# Altium footprint library DIP-CN  0607.PcbLib: 329 footprints (part 15 of 21)
Each footprint in its own frame and in the unit in brackets; x right, y up, seen from the top. Pads: shape width x height; smd on the part's side, far side on the other; paste and mask are expansions set on the pad; w line width, h text height; cw(c..) or ccw(c..) is an arc to the next point about the centre after c.
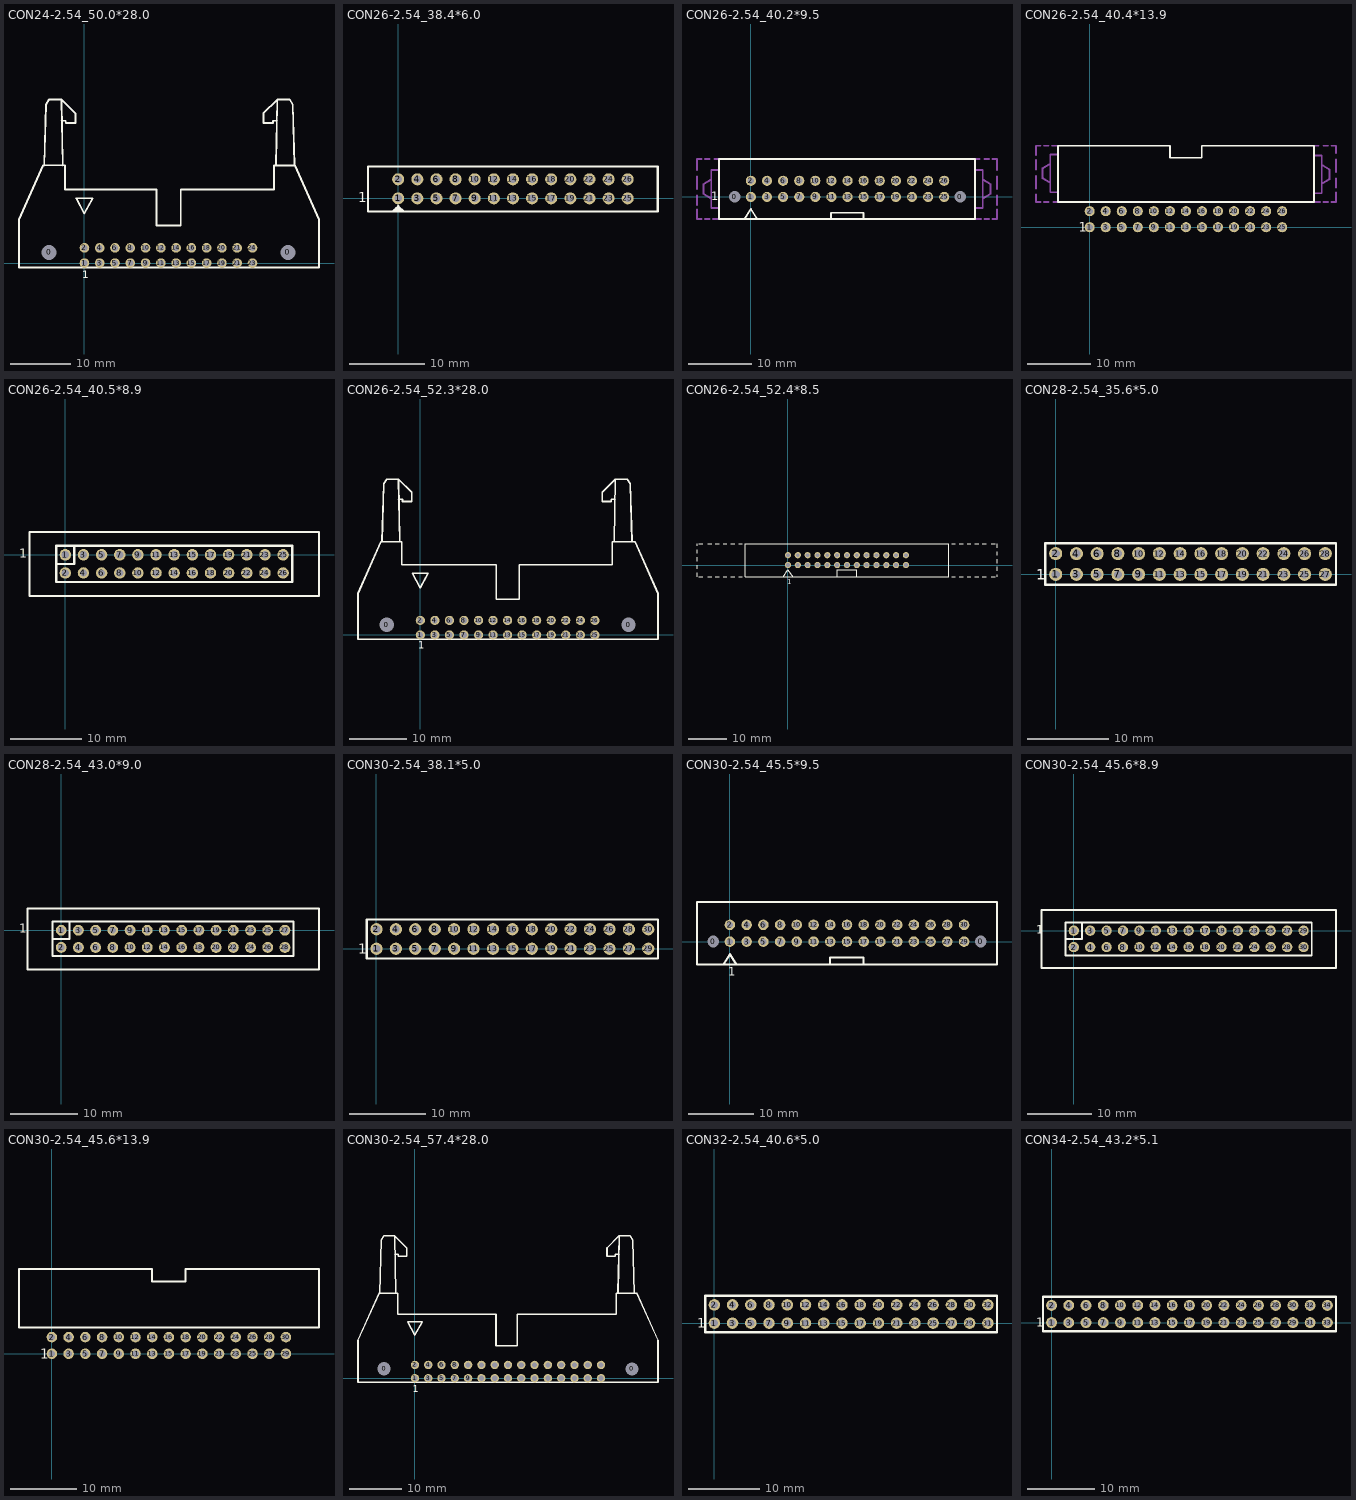
[diagram p14: the footprints below, top view; thin cyan lines are the x and y axes]

## CON24-2.54_50.0*28.0 [mm]
pads (26):
  round 1.6 hole 2.5 unplated: 0(-5.881,1.797) 0(33.819,1.797)
  round 1.6 hole 1: 1(0,0) 2(0,2.54) 3(2.54,0) 4(2.54,2.54) 5(5.08,0) 6(5.08,2.54) 7(7.62,0) 8(7.62,2.54) 9(10.16,0) 10(10.16,2.54) 11(12.7,0) 12(12.7,2.54) 13(15.24,0) 14(15.24,2.54) 15(17.779,-0.003) 16(17.779,2.537) 17(20.319,-0.003) 18(20.319,2.537) 19(22.859,-0.003) 20(22.859,2.537) 21(25.399,-0.003) 21(25.399,2.537) 23(27.939,-0.003) 24(27.939,2.537)
TopOverlay:
  lines w0.3: -6.698,16.247 -6.398,26.387 -5.898,27.187 -3.798,27.187 ; -3.798,23.687 -3.098,23.687 -3.098,23.287 -1.498,23.287 -1.498,24.887 -3.798,27.187 ; -3.598,16.247 -3.798,27.187 ; 31.846,16.247 32.046,27.187 ; 32.046,23.687 31.346,23.687 31.346,23.287 29.746,23.287 29.746,24.887 32.046,27.187 ; 34.946,16.247 34.646,26.387 34.146,27.187 32.046,27.187 ; -10.881,-0.743 38.999,-0.753 38.999,7.247 34.999,16.247 31.499,16.247 31.499,12.247 15.999,12.247 15.999,6.247 11.999,6.247 11.999,12.247 -3.251,12.247 -3.251,16.247 -6.881,16.257 -10.881,7.257 -10.881,-0.743 ; -1.381,10.782 1.394,10.782 -0.031,8.232 -1.381,10.782
  text "1" at -0.381,-2.54 h1.3
BottomOverlay:
  lines w0.3: -1.016,1.27 28.956,1.27 ; 1.27,-0.829 1.27,3.616 ; 3.81,-0.829 3.81,3.616 ; 6.35,-0.829 6.35,3.616 ; 8.89,-0.829 8.89,3.616 ; 11.43,-0.829 11.43,3.616 ; 13.97,-0.829 13.97,3.616 ; 16.51,-0.829 16.51,3.616 ; 19.05,-0.829 19.05,3.616 ; 21.59,-0.889 21.59,3.556 ; 24.13,-0.829 24.13,3.616 ; 26.67,-0.889 26.67,3.556

## CON26-2.54_38.4*6.0 [mm]
pads (26):
  round 1.6 hole 1: 1(0,0) 2(0,2.54) 3(2.54,0) 4(2.54,2.54) 5(5.08,0) 6(5.08,2.54) 7(7.62,0) 8(7.62,2.54) 9(10.16,0) 10(10.16,2.54) 11(12.7,0) 12(12.7,2.54) 13(15.24,0) 14(15.24,2.54) 15(17.78,0) 16(17.78,2.54) 17(20.32,0) 18(20.32,2.54) 19(22.86,0) 20(22.86,2.54) 21(25.4,0) 22(25.4,2.54) 23(27.94,0) 24(27.94,2.54) 25(30.48,0) 26(30.48,2.54)
TopOverlay:
  lines w0.3: -0.7,-1.75 0,-1.05 ; -0.515,-1.565 0.515,-1.565 ; -0.423,-1.473 0.306,-1.473 ; -0.258,-1.308 0.251,-1.308 ; 0,-1.75 0,-1.05 ; 0.7,-1.75 0,-1.05 ; 34.47,-1.75 34.47,4.25 ; 34.5,-1.75 -4,-1.75 -4,4.25 34.5,4.25
  text "1" at -5.334,-0.508 h1.3

## CON26-2.54_40.2*9.5 [mm]
pads (28):
  round 1.5 hole 1.8 unplated: 0(-2.54,0) 0(33.02,0)
  round 1.6 hole 1: 1(0,0) 2(0,2.54) 3(2.54,0) 4(2.54,2.54) 5(5.08,0) 6(5.08,2.54) 7(7.62,0) 8(7.62,2.54) 9(10.16,0) 10(10.16,2.54) 11(12.7,0) 12(12.7,2.54) 13(15.24,0) 14(15.24,2.54) 15(17.78,0) 16(17.78,2.54) 17(20.32,0) 18(20.32,2.54) 19(22.86,0) 20(22.86,2.54) 21(25.4,0) 22(25.4,2.54) 23(27.94,0) 24(27.94,2.54) 25(30.48,0) 26(30.48,2.54)
TopOverlay:
  lines w0.3: 12.66,-3.5 12.66,-2.5 17.78,-2.5 17.78,-3.5 ; -1,-3.5 0,-1.905 1,-3.5 ; -1,-3.5 1,-3.5 ; -1,-3.5 1,-3.5 ; -1,-3.5 1,-3.5 ; -5,-3.5 35.306,-3.5 35.306,6 -5,6 -5,-3.5
  text "1" at -6.223,-0.508 h1.3
BottomOverlay:
  lines w0.3: -1.016,1.27 31.369,1.27 ; 1.27,-0.829 1.27,3.616 ; 3.81,-0.829 3.81,3.616 ; 6.35,-0.829 6.35,3.616 ; 8.89,-0.829 8.89,3.616 ; 11.43,-0.829 11.43,3.616 ; 13.97,-0.829 13.97,3.616 ; 16.51,-0.829 16.51,3.616 ; 19.05,-0.829 19.05,3.616 ; 21.59,-0.889 21.59,3.556 ; 24.13,-0.829 24.13,3.616 ; 26.67,-0.889 26.67,3.556 ; 29.21,-0.889 29.21,3.556
Mechanical7:
  lines w0.3: -8.5,-2 -8.5,-3.5 -7.75,-3.5 ; -8.5,-1.25 -8.5,0.25 ; -8.5,1.25 -8.5,3.25 ; -8.5,4.25 -8.5,6 -7.75,6 ; -7.25,-3.5 -6.5,-3.5 ; -7.25,6 -6.5,6 ; -6,-3.5 -5,-3.5 ; -5.75,6 -5,6 ; -5,-1.75 -6.25,-1.75 -6.25,-0.25 ; -5,4.25 -6.25,4.25 -6.25,2.75 ; 35.306,-3.5 36.306,-3.5 ; 35.306,-1.75 36.556,-1.75 36.556,-0.25 ; 35.306,4.25 36.556,4.25 36.556,2.75 ; 35.306,6 36.056,6 ; 36.806,-3.5 37.556,-3.5 ; 36.806,6 37.556,6 ; 38.056,-3.5 38.806,-3.5 38.806,-2 ; 38.056,6 38.806,6 38.806,4.25 ; 38.806,-1.25 38.806,0.25 ; 38.806,1.25 38.806,3.25 ; -6.25,-0.25 -6.25,2.75 ; -6.25,-0.25 -7.5,0.5 -7.5,2 -6.25,2.75 ; 36.556,-0.25 36.556,2.75 ; 36.556,-0.25 37.806,0.5 37.806,2 36.556,2.75

## CON26-2.54_40.4*13.9 [mm]
pads (26):
  round 1.6 hole 1: 1(0,0) 2(0,2.54) 3(2.54,0) 4(2.54,2.54) 5(5.08,0) 6(5.08,2.54) 7(7.62,0) 8(7.62,2.54) 9(10.16,0) 10(10.16,2.54) 11(12.7,0) 12(12.7,2.54) 13(15.24,0) 14(15.24,2.54) 15(17.78,0) 16(17.78,2.54) 17(20.32,0) 18(20.32,2.54) 19(22.86,0) 20(22.86,2.54) 21(25.4,0) 22(25.4,2.54) 23(27.94,0) 24(27.94,2.54) 25(30.48,0) 26(30.48,2.54)
TopOverlay:
  lines w0.3: -5,4 35.5,4 35.5,12.9 17.75,12.9 17.75,11 12.7,11 12.7,12.9 -5,12.9 -5,4
  text "1" at -1.75,-0.75 h1.52
Mechanical7:
  lines w0.3: -8.5,5.15 -8.5,4 -7.75,4 ; -8.5,6.15 -8.5,8.15 ; -8.5,9.15 -8.5,10.65 ; -8.5,11.4 -8.5,12.9 -7.75,12.9 ; -7.25,4 -6.5,4 ; -7.25,12.9 -6.5,12.9 ; -6,12.9 -5,12.9 ; -5.75,4 -5,4 ; -5,5.531 -6.25,5.531 -6.25,7.031 ; -5,11.531 -6.25,11.531 -6.25,10.031 ; 35.5,4 36.5,4 ; 35.5,5.369 36.75,5.369 36.75,6.869 ; 35.5,11.369 36.75,11.369 36.75,9.869 ; 35.5,12.9 36.25,12.9 ; 37,4 37.75,4 ; 37,12.9 37.75,12.9 ; 38.25,4 39,4 39,5.5 ; 38.25,12.9 39,12.9 39,11.75 ; 39,6.25 39,7.75 ; 39,8.75 39,10.75 ; -6.25,7.031 -6.25,10.031 ; -6.25,7.031 -7.5,7.781 -7.5,9.281 -6.25,10.031 ; 36.75,6.869 36.75,9.869 ; 36.75,6.869 38,7.619 38,9.119 36.75,9.869

## CON26-2.54_40.5*8.9 [mm]
pads (26):
  round 1.6 hole 1: 1(0,0) 2(0,-2.54) 3(2.54,0) 4(2.54,-2.54) 5(5.08,0) 6(5.08,-2.54) 7(7.62,0) 8(7.62,-2.54) 9(10.16,0) 10(10.16,-2.54) 11(12.7,0) 12(12.7,-2.54) 13(15.24,0) 14(15.24,-2.54) 15(17.78,0) 16(17.78,-2.54) 17(20.32,0) 18(20.32,-2.54) 19(22.86,0) 20(22.86,-2.54) 21(25.4,0) 22(25.4,-2.54) 23(27.94,0) 24(27.94,-2.54) 25(30.48,0) 26(30.48,-2.54)
TopOverlay:
  lines w0.3: -1.27,-1.29 1.25,-1.29 1.25,1.23 ; -5,-5.79 35.5,-5.79 35.5,3.21 -5,3.21 -5,-5.79 ; -1.27,-3.81 31.75,-3.81 31.75,1.27 -1.27,1.27 -1.27,-3.81
  text "1" at -6.477,-0.381 h1.3
BottomOverlay:
  lines w0.3: -0.889,-1.29 31.496,-1.29 ; 1.25,-3.429 1.25,1.016 ; 3.81,-3.429 3.81,1.016 ; 6.35,-3.429 6.35,1.016 ; 8.89,-3.429 8.89,1.016 ; 11.43,-3.556 11.43,0.889 ; 14.097,-3.556 14.097,0.889 ; 16.51,-3.556 16.51,0.889 ; 19.05,-3.429 19.05,1.016 ; 21.59,-3.556 21.59,0.889 ; 24.13,-3.556 24.13,0.889 ; 26.797,-3.556 26.797,0.889 ; 29.21,-3.556 29.21,0.889

## CON26-2.54_52.3*28.0 [mm]
pads (28):
  round 1.6 hole 2.5 unplated: 0(-5.881,1.797) 0(36.359,1.797)
  round 1.6 hole 1: 1(0,0) 2(0,2.54) 3(2.54,0) 4(2.54,2.54) 5(5.08,0) 6(5.08,2.54) 7(7.62,0) 8(7.62,2.54) 9(10.16,0) 10(10.16,2.54) 11(12.7,0) 12(12.7,2.54) 13(15.24,0) 14(15.24,2.54) 15(17.779,-0.003) 16(17.779,2.537) 17(20.319,-0.003) 18(20.319,2.537) 19(22.859,-0.003) 20(22.859,2.537) 21(25.399,-0.003) 22(25.399,2.537) 23(27.939,-0.003) 24(27.939,2.537) 25(30.479,-0.003) 26(30.479,2.537)
TopOverlay:
  lines w0.3: -6.698,16.247 -6.398,26.387 -5.898,27.187 -3.798,27.187 ; -3.798,23.687 -3.098,23.687 -3.098,23.287 -1.498,23.287 -1.498,24.887 -3.798,27.187 ; -3.598,16.247 -3.798,27.187 ; 33.846,16.247 34.046,27.187 ; 34.046,23.687 33.346,23.687 33.346,23.287 31.746,23.287 31.746,24.887 34.046,27.187 ; 36.946,16.247 36.646,26.387 36.146,27.187 34.046,27.187 ; -10.881,-0.743 -10.881,7.257 -6.881,16.257 -3.251,16.247 -3.251,12.247 13.249,12.247 13.249,6.247 17.249,6.247 17.249,12.247 33.499,12.247 33.499,16.247 37.499,16.247 41.499,7.247 41.499,-0.753 -10.881,-0.743 ; -1.381,10.782 -0.031,8.232 1.394,10.782 -1.381,10.782
  text "1" at -0.381,-2.413 h1.3
BottomOverlay:
  lines w0.3: -1.016,1.27 31.369,1.27 ; 1.27,-0.829 1.27,3.616 ; 3.81,-0.829 3.81,3.616 ; 6.35,-0.829 6.35,3.616 ; 8.89,-0.829 8.89,3.616 ; 11.43,-0.829 11.43,3.616 ; 13.97,-0.829 13.97,3.616 ; 16.51,-0.829 16.51,3.616 ; 19.05,-0.829 19.05,3.616 ; 21.59,-0.889 21.59,3.556 ; 24.13,-0.829 24.13,3.616 ; 26.67,-0.889 26.67,3.556 ; 29.21,-0.889 29.21,3.556

## CON26-2.54_52.4*8.5 [mm]
pads (26):
  round 1.6 hole 1: 1(0.001,0.003) 2(0.001,2.543) 3(2.541,0.003) 4(2.541,2.543) 5(5.081,0.003) 6(5.081,2.543) 7(7.621,0.003) 8(7.621,2.543) 9(10.161,0.003) 10(10.161,2.543) 11(12.701,0.003) 12(12.701,2.543) 13(15.241,0.003) 14(15.241,2.543) 15(17.78,0) 16(17.78,2.54) 17(20.32,0) 18(20.32,2.54) 19(22.86,0) 20(22.86,2.54) 21(25.4,0) 22(25.4,2.54) 23(27.94,0) 24(27.94,2.54) 25(30.48,0) 26(30.48,2.54)
TopOverlay:
  lines w0.3: -23.5,-3 -23.5,-2 ; -23.5,-1 -23.5,0 ; -23.5,1 -23.5,2 ; -23.5,3 -23.5,4 ; -23.5,5 -23.5,5.5 ; -23,-3 -22,-3 ; -23,5.5 -22,5.5 ; -20.75,-3 -19.75,-3 ; -20.75,5.5 -19.75,5.5 ; -18.75,-3 -17.75,-3 ; -18.75,5.5 -17.75,5.5 ; -16.75,-3 -15.75,-3 ; -16.75,5.5 -15.75,5.5 ; -14.75,-3 -13.75,-3 ; -14.75,5.5 -13.75,5.5 ; -12.75,-3 -11.75,-3 ; -12.75,5.5 -11.75,5.5 ; -1.27,-3.048 0,-1.27 1.27,-3.048 ; 12.7,-3.048 12.7,-1.27 17.78,-1.27 17.78,-3.048 ; 42.25,-3 43.25,-3 ; 42.25,5.5 43.25,5.5 ; 44.25,-3 45.25,-3 ; 44.25,5.5 45.25,5.5 ; 46.25,-3 47.25,-3 ; 46.25,5.5 47.25,5.5 ; 48.25,-3 49.25,-3 ; 48.25,5.5 49.25,5.5 ; 50.25,-3 51.25,-3 ; 50.25,5.5 51.25,5.5 ; 52.5,-3 53.5,-3 ; 52.5,5.5 53.5,5.5 ; 54,-3 54,-2.5 ; 54,-1.5 54,-0.5 ; 54,0.5 54,1.5 ; 54,2.5 54,3.5 ; 54,4.5 54,5.5 ; -11,-3 -11,5.5 41.5,5.5 41.5,-3 -11,-3
  text "1" at -0.127,-4.953 h1.3
BottomOverlay:
  lines w0.3: -1.015,1.273 31.37,1.273 ; 1.271,-0.826 1.271,3.619 ; 3.811,-0.826 3.811,3.619 ; 6.351,-0.826 6.351,3.619 ; 8.891,-0.826 8.891,3.619 ; 11.431,-0.826 11.431,3.619 ; 13.971,-0.826 13.971,3.619 ; 16.511,-0.826 16.511,3.619 ; 19.051,-0.826 19.051,3.619 ; 21.591,-0.886 21.591,3.559 ; 24.131,-0.826 24.131,3.619 ; 26.671,-0.886 26.671,3.559 ; 29.211,-0.886 29.211,3.559

## CON28-2.54_35.6*5.0 [mm]
pads (28):
  round 1.6 hole 1: 1(0,0) 2(0,2.54) 3(2.54,0) 4(2.54,2.54) 5(5.08,0) 6(5.08,2.54) 7(7.62,0) 8(7.62,2.54) 9(10.16,0) 10(10.16,2.54) 11(12.7,0) 12(12.7,2.54) 13(15.24,0) 14(15.24,2.54) 15(17.779,-0.003) 16(17.78,2.54) 17(20.319,-0.003) 18(20.32,2.54) 19(22.859,-0.003) 20(22.86,2.54) 21(25.4,0) 22(25.4,2.54) 23(27.94,0) 24(27.94,2.54) 25(30.48,0) 26(30.48,2.54) 27(33.02,0) 28(33.02,2.54)
TopOverlay:
  lines w0.3: -1.27,-1.27 34.33,-1.27 34.33,3.81 -1.27,3.81 -1.27,-1.27
  text "1" at -2.413,-0.635 h1.3
BottomOverlay:
  lines w0.3: -1.016,1.27 33.75,1.25 ; 1.27,-0.829 1.27,3.616 ; 3.81,-0.829 3.81,3.616 ; 6.35,-0.829 6.35,3.616 ; 8.89,-0.829 8.89,3.616 ; 11.43,-0.829 11.43,3.616 ; 13.97,-0.829 13.97,3.616 ; 16.51,-0.829 16.51,3.616 ; 19.05,-0.829 19.05,3.616 ; 21.59,-0.889 21.59,3.556 ; 24.13,-0.829 24.13,3.616 ; 26.67,-0.889 26.67,3.556 ; 29.21,-0.889 29.21,3.556 ; 31.75,-0.889 31.75,3.556

## CON28-2.54_43.0*9.0 [mm]
pads (28):
  round 1.6 hole 1: 1(0,0) 2(0,-2.54) 3(2.54,0) 4(2.54,-2.54) 5(5.08,0) 6(5.08,-2.54) 7(7.62,0) 8(7.62,-2.54) 9(10.16,0) 10(10.16,-2.54) 11(12.7,0) 12(12.7,-2.54) 13(15.24,0) 14(15.24,-2.54) 15(17.78,0) 16(17.78,-2.54) 17(20.32,0) 18(20.32,-2.54) 19(22.86,0) 20(22.86,-2.54) 21(25.4,0) 22(25.4,-2.54) 23(27.94,0) 24(27.94,-2.54) 25(30.48,0) 26(30.48,-2.54) 27(33.02,0) 28(33.02,-2.54)
TopOverlay:
  lines w0.3: -1.27,-1.29 1.25,-1.29 1.25,1.23 ; -5,-5.79 38.04,-5.79 38.04,3.21 -5,3.21 -5,-5.79 ; -1.27,-3.81 34.29,-3.81 34.29,1.27 -1.27,1.27 -1.27,-3.81
  text "1" at -6.223,-0.381 h1.3
BottomOverlay:
  lines w0.3: -0.889,-1.29 34.29,-1.27 ; 1.25,-3.429 1.25,1.016 ; 3.81,-3.429 3.81,1.016 ; 6.35,-3.429 6.35,1.016 ; 8.89,-3.429 8.89,1.016 ; 11.43,-3.556 11.43,0.889 ; 14.097,-3.556 14.097,0.889 ; 16.51,-3.556 16.51,0.889 ; 19.05,-3.429 19.05,1.016 ; 21.59,-3.556 21.59,0.889 ; 24.13,-3.556 24.13,0.889 ; 26.797,-3.556 26.797,0.889 ; 29.21,-3.556 29.21,0.889 ; 31.877,-3.556 31.877,0.889

## CON30-2.54_38.1*5.0 [mm]
pads (30):
  round 1.6 hole 1: 1(0,0) 2(0,2.54) 3(2.54,0) 4(2.54,2.54) 5(5.08,0) 6(5.08,2.54) 7(7.62,0) 8(7.62,2.54) 9(10.16,0) 10(10.16,2.54) 11(12.7,0) 12(12.7,2.54) 13(15.24,0) 14(15.24,2.54) 15(17.779,-0.003) 16(17.78,2.54) 17(20.319,-0.003) 18(20.32,2.54) 19(22.859,-0.003) 20(22.86,2.54) 21(25.4,0) 22(25.4,2.54) 23(27.94,0) 24(27.94,2.54) 25(30.48,0) 26(30.48,2.54) 27(33.02,0) 28(33.02,2.54) 29(35.56,0) 30(35.56,2.54)
TopOverlay:
  lines w0.3: -1.27,-1.27 36.83,-1.27 36.83,3.81 -1.27,3.81 -1.27,-1.27
  text "1" at -2.413,-0.635 h1.3
BottomOverlay:
  lines w0.3: -1.016,1.27 36.576,1.27 ; 1.27,-0.829 1.27,3.616 ; 3.81,-0.829 3.81,3.616 ; 6.35,-0.829 6.35,3.616 ; 8.89,-0.829 8.89,3.616 ; 11.43,-0.829 11.43,3.616 ; 13.97,-0.829 13.97,3.616 ; 16.51,-0.829 16.51,3.616 ; 19.05,-0.829 19.05,3.616 ; 21.59,-0.889 21.59,3.556 ; 24.13,-0.829 24.13,3.616 ; 26.67,-0.889 26.67,3.556 ; 29.21,-0.889 29.21,3.556 ; 31.75,-0.889 31.75,3.556 ; 34.29,-0.889 34.29,3.556

## CON30-2.54_45.5*9.5 [mm]
pads (32):
  round 1.5 hole 1.8 unplated: 0(-2.54,0) 0(38.1,0)
  round 1.6 hole 1: 1(0,0) 2(0,2.54) 3(2.54,0) 4(2.54,2.54) 5(5.08,0) 6(5.08,2.54) 7(7.62,0) 8(7.62,2.54) 9(10.16,0) 10(10.16,2.54) 11(12.7,0) 12(12.7,2.54) 13(15.24,0) 14(15.24,2.54) 15(17.78,0) 16(17.78,2.54) 17(20.32,0) 18(20.32,2.54) 19(22.86,0) 20(22.86,2.54) 21(25.4,0) 22(25.4,2.54) 23(27.94,0) 24(27.94,2.54) 25(30.48,0) 26(30.48,2.54) 27(33.02,0) 28(33.02,2.54) 29(35.56,0) 30(35.56,2.54)
TopOverlay:
  lines w0.3: 15.2,-3.413 15.2,-2.413 20.32,-2.413 20.32,-3.413 ; -1,-3.5 0,-1.905 1,-3.5 ; -1,-3.5 1,-3.5 ; -1,-3.5 1,-3.5 ; -1,-3.5 1,-3.5 ; -5,-3.5 40.56,-3.5 40.56,6 -5,6 -5,-3.5
  text "1" at -0.254,-5.207 h1.3

## CON30-2.54_45.6*8.9 [mm]
pads (30):
  round 1.6 hole 1: 1(0,0) 2(0,-2.54) 3(2.54,0) 4(2.54,-2.54) 5(5.08,0) 6(5.08,-2.54) 7(7.62,0) 8(7.62,-2.54) 9(10.16,0) 10(10.16,-2.54) 11(12.7,0) 12(12.7,-2.54) 13(15.24,0) 14(15.24,-2.54) 15(17.78,0) 16(17.78,-2.54) 17(20.32,0) 18(20.32,-2.54) 19(22.86,0) 20(22.86,-2.54) 21(25.4,0) 22(25.4,-2.54) 23(27.94,0) 24(27.94,-2.54) 25(30.48,0) 26(30.48,-2.54) 27(33.02,0) 28(33.02,-2.54) 29(35.56,0) 30(35.56,-2.54)
TopOverlay:
  lines w0.3: -1.27,-1.29 1.25,-1.29 1.25,1.23 ; -5,-5.79 40.58,-5.79 40.58,3.21 -5,3.21 -5,-5.79 ; -1.27,-3.81 36.83,-3.81 36.83,1.27 -1.27,1.27 -1.27,-3.81
  text "1" at -5.842,-0.508 h1.3
BottomOverlay:
  lines w0.3: -0.889,-1.29 37.5,-1.25 ; 1.25,-3.429 1.25,1.016 ; 3.81,-3.429 3.81,1.016 ; 6.35,-3.429 6.35,1.016 ; 8.89,-3.429 8.89,1.016 ; 11.43,-3.556 11.43,0.889 ; 14.097,-3.556 14.097,0.889 ; 16.51,-3.556 16.51,0.889 ; 19.05,-3.429 19.05,1.016 ; 21.59,-3.556 21.59,0.889 ; 24.13,-3.556 24.13,0.889 ; 26.797,-3.556 26.797,0.889 ; 29.21,-3.556 29.21,0.889 ; 31.877,-3.556 31.877,0.889 ; 34.29,-3.556 34.29,0.889

## CON30-2.54_45.6*13.9 [mm]
pads (30):
  round 1.6 hole 1: 1(0,0) 2(0,2.54) 3(2.54,0) 4(2.54,2.54) 5(5.08,0) 6(5.08,2.54) 7(7.62,0) 8(7.62,2.54) 9(10.16,0) 10(10.16,2.54) 11(12.7,0) 12(12.7,2.54) 13(15.24,0) 14(15.24,2.54) 15(17.78,0) 16(17.78,2.54) 17(20.32,0) 18(20.32,2.54) 19(22.86,0) 20(22.86,2.54) 21(25.4,0) 22(25.4,2.54) 23(27.94,0) 24(27.94,2.54) 25(30.48,0) 26(30.48,2.54) 27(33.02,0) 28(33.02,2.54) 29(35.56,0) 30(35.56,2.54)
TopOverlay:
  lines w0.3: -5,4 40.58,4 40.58,12.9 20.29,12.9 20.29,11 15.24,11 15.24,12.9 -5,12.9 -5,4
  text "1" at -1.75,-0.75 h1.52

## CON30-2.54_57.4*28.0 [mm]
pads (32):
  round 1.6 hole 2.5 unplated: 0(-5.881,1.797) 0(41.44,1.795)
  round 1.6 hole 1: 1(0,0) 2(0,2.54) 3(2.54,0) 4(2.54,2.54) 5(5.08,0) 6(5.08,2.54) 7(7.62,0) 8(7.62,2.54) 9(10.16,0) 10(10.16,2.54) 11(12.7,0) 12(12.7,2.54) 13(15.24,0) 14(15.24,2.54) 15(17.779,-0.003) 16(17.779,2.537) 17(20.319,-0.003) 18(20.319,2.537) 19(22.859,-0.003) 20(22.859,2.537) 21(25.399,-0.003) 22(25.399,2.537) 23(27.939,-0.003) 24(27.939,2.537) 25(30.479,-0.003) 26(30.479,2.537) 27(33.019,-0.003) 28(33.019,2.537) 29(35.559,-0.003) 30(35.559,2.537)
TopOverlay:
  lines w0.3: -6.75,16.253 -6.45,26.393 -5.95,27.193 -3.85,27.193 ; -3.85,23.693 -3.15,23.693 -3.15,23.293 -1.55,23.293 -1.55,24.893 -3.85,27.193 ; -3.65,16.253 -3.85,27.193 ; 38.8,16.261 39,27.2 ; 39,23.7 38.3,23.7 38.3,23.3 36.7,23.3 36.7,24.9 39,27.2 ; 41.9,16.261 41.6,26.4 41.1,27.2 39,27.2 ; -10.881,-0.743 46.44,-0.745 46.44,7.255 42.39,16.261 38.453,16.261 38.453,12.197 19.557,12.189 19.557,6.22 15.493,6.22 15.493,12.189 -3.303,12.189 -3.303,16.253 -6.859,16.253 -10.881,7.257 -10.881,-0.743 ; -1.381,10.782 1.394,10.782 -0.031,8.232 -1.381,10.782
  text "1" at -0.381,-2.667 h1.3
BottomOverlay:
  lines w0.3: -1.016,1.27 36.576,1.27 ; 1.27,-0.829 1.27,3.616 ; 3.81,-0.829 3.81,3.616 ; 6.35,-0.829 6.35,3.616 ; 8.89,-0.829 8.89,3.616 ; 11.43,-0.829 11.43,3.616 ; 13.97,-0.829 13.97,3.616 ; 16.51,-0.829 16.51,3.616 ; 19.05,-0.829 19.05,3.616 ; 21.59,-0.889 21.59,3.556 ; 24.13,-0.829 24.13,3.616 ; 26.67,-0.889 26.67,3.556 ; 29.21,-0.889 29.21,3.556 ; 31.75,-0.889 31.75,3.556 ; 34.29,-0.889 34.29,3.556

## CON32-2.54_40.6*5.0 [mm]
pads (32):
  round 1.6 hole 1: 1(0,0) 2(0,2.54) 3(2.54,0) 4(2.54,2.54) 5(5.08,0) 6(5.08,2.54) 7(7.62,0) 8(7.62,2.54) 9(10.16,0) 10(10.16,2.54) 11(12.7,0) 12(12.7,2.54) 13(15.24,0) 14(15.24,2.54) 15(17.779,-0.003) 16(17.779,2.537) 17(20.319,-0.003) 18(20.319,2.537) 19(22.859,-0.003) 20(22.859,2.537) 21(25.4,0) 22(25.4,2.54) 23(27.94,0) 24(27.94,2.54) 25(30.48,0) 26(30.48,2.54) 27(33.02,0) 28(33.02,2.54) 29(35.56,0) 30(35.56,2.54) 31(38.1,0) 32(38.1,2.54)
TopOverlay:
  lines w0.3: -1.27,-1.27 39.37,-1.27 39.37,3.81 -1.27,3.81 -1.27,-1.27
  text "1" at -2.413,-0.635 h1.3
BottomOverlay:
  lines w0.3: -1.016,1.27 38.989,1.27 ; 1.27,-0.829 1.27,3.616 ; 3.81,-0.829 3.81,3.616 ; 6.35,-0.829 6.35,3.616 ; 8.89,-0.829 8.89,3.616 ; 11.43,-0.829 11.43,3.616 ; 13.97,-0.829 13.97,3.616 ; 16.51,-0.829 16.51,3.616 ; 19.05,-0.829 19.05,3.616 ; 21.59,-0.889 21.59,3.556 ; 24.13,-0.829 24.13,3.616 ; 26.67,-0.889 26.67,3.556 ; 29.21,-0.889 29.21,3.556 ; 31.75,-0.889 31.75,3.556 ; 34.29,-0.889 34.29,3.556 ; 36.83,-0.889 36.83,3.556

## CON34-2.54_43.2*5.1 [mm]
pads (34):
  round 1.6 hole 1: 1(0,0) 2(0,2.54) 3(2.54,0) 4(2.54,2.54) 5(5.08,0) 6(5.08,2.54) 7(7.62,0) 8(7.62,2.54) 9(10.16,0) 10(10.16,2.54) 11(12.7,0) 12(12.7,2.54) 13(15.24,0) 14(15.24,2.54) 15(17.779,-0.003) 16(17.779,2.537) 17(20.319,-0.003) 18(20.319,2.537) 19(22.859,-0.003) 20(22.859,2.537) 21(25.4,0) 22(25.4,2.54) 23(27.94,0) 24(27.94,2.54) 25(30.48,0) 26(30.48,2.54) 27(33.02,0) 28(33.02,2.54) 29(35.56,0) 30(35.56,2.54) 31(38.1,0) 32(38.1,2.54) 33(40.64,0) 34(40.64,2.54)
TopOverlay:
  lines w0.3: -1.27,-1.27 -1.27,3.81 41.91,3.81 41.91,-1.27 -1.27,-1.27
  text "1" at -2.286,-0.635 h1.3
BottomOverlay:
  lines w0.3: -1.016,1.27 41.656,1.27 ; 1.27,-0.829 1.27,3.616 ; 3.81,-0.829 3.81,3.616 ; 6.35,-0.829 6.35,3.616 ; 8.89,-0.829 8.89,3.616 ; 11.43,-0.829 11.43,3.616 ; 13.97,-0.829 13.97,3.616 ; 16.51,-0.829 16.51,3.616 ; 19.05,-0.829 19.05,3.616 ; 21.59,-0.889 21.59,3.556 ; 24.13,-0.829 24.13,3.616 ; 26.67,-0.889 26.67,3.556 ; 29.21,-0.889 29.21,3.556 ; 31.75,-0.889 31.75,3.556 ; 34.29,-0.889 34.29,3.556 ; 36.83,-0.889 36.83,3.556 ; 39.37,-0.889 39.37,3.556